# EAGLE library part ATXP6 (library Labops_Lib_AH)
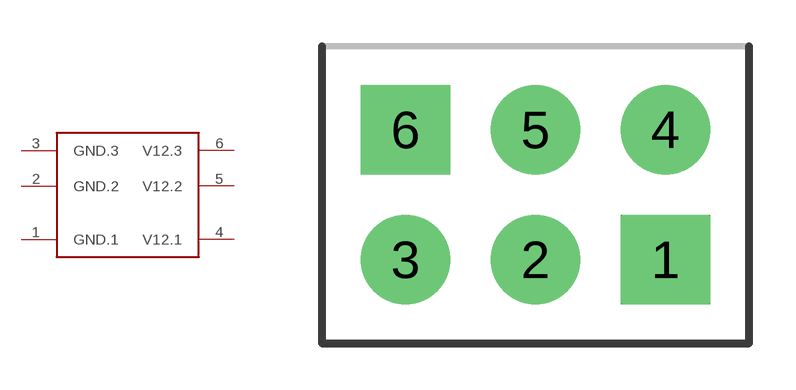
[diagram p17: symbol with the pads of ATX_P6_STRAIGHT; footprint ATX_P6_STRAIGHT]

Designator prefix -

## ATXP6  [ATX_P6_STRAIGHT]
1  GND.1  pwr
2  GND.2  pwr
3  GND.3  pwr
4  V12.1  pwr
5  V12.2  pwr
6  V12.3  pwr

## Footprint ATX_P6_STRAIGHT (pad centres in mm)
Molex Mini-Fit Jr. - 24 pin, Right Angle Specifications: Pin count:24 Datasheet referenced for footprint <https://www.sparkfun.com/datasheets/Prototyping/Connectors/ATX-RA.pdf> Example device(s): ATX24
drill 1.8 pad 2.9 square: 1 4.2,-2.1; 6 -4.2,2.1
drill 1.8 pad 2.9: 2 0,-2.1; 3 -4.2,-2.1; 4 4.2,2.1; 5 0,2.1